# Altium schematic symbol library IPBT-103-H1-T-S-RA-K.SchLib: 1 symbol
Pins are listed as number, name and electrical type; pins without a type are passive.

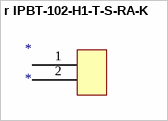
[diagram p0: symbol r IPBT-102-H1-T-S-RA-K]

## r IPBT-102-H1-T-S-RA-K
designator *
footprint SAM9552-ND (Samtec Connector Through Hole, Right Angle 2 pos 0.165" (4.20mm) pitch)
pins: 1, 2